# Altium schematic symbol library CapTantal_passive.SchLib: 7 symbols
Pins are listed as number, name and electrical type; pins without a type are passive.

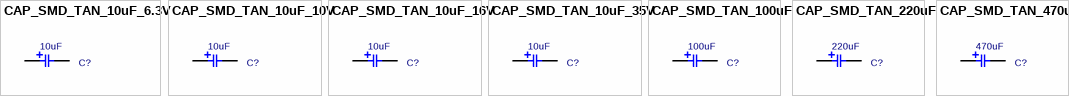
[diagram p0: symbols CAP_SMD_TAN_10uF_6.3V to CAP_SMD_TAN_470uF]

## CAP_SMD_TAN_10uF_6.3V
designator C?, comment 10uF
CAP, SMD, TAN; PARAM: 20%, 300mOhm, -55~105oC; MANF: VISHAY; MANF_P#: T55A106M6R3C0300; PARAM2: 6.3V; PRICE: 0.46$; VALUE: 10uF
footprint C_TN_3216 (CAPACITOR, TAN A, 1206P, 3.2x1.6mm)
pins: 1, 2

## CAP_SMD_TAN_10uF_10V
designator C?, comment 10uF
CAP, SMD, TAN; PARAM: 20%, 300mOhm, -55~105oC; MANF: VISHAY; MANF_P#: T55A106M010C0300; PARAM2: 10V; PRICE: 0.46$; VALUE: 10uF
footprint C_TN_3216 (CAPACITOR, TAN A, 1206P, 3.2x1.6mm)
pins: 1, 2

## CAP_SMD_TAN_10uF_16V
designator C?, comment 10uF
CAP, SMD, TAN; PARAM: 20%, 200mOhm, -55~105oC; MANF: AVX; MANF_P#: TCJT106M016R0200; PARAM2: 16V; PRICE: 1$; VALUE: 10uF
footprint C_TN_3528 (CAPACITOR, TAN B, TAN H, TAN T, TAN M, 3528P, 1210P, 3.5X2.8mm)
pins: 1, 2

## CAP_SMD_TAN_10uF_35V
designator C?, comment 10uF
CAP, SMD, TAN; PARAM: 20%, 300mOhm, -55~125oC; MANF: VISHAY; MANF_P#: 593D106X9035D2TE3; PARAM2: 35V; PRICE: 0.8$; VALUE: 10uF
footprint C_TN_7343 (CAPACITOR, TAN D, TAN E, TAN Y, TAN X, 7343P, 7.3X4.3mm)
pins: 1, 2

## CAP_SMD_TAN_100uF
designator C?, comment 100uF
CAP, SMD, TAN; PARAM: 20%, 50mOhm, -55~105oC; MANF: AVX; MANF_P#: TCJD107M016R0050; PARAM2: 16V; PRICE: 1.9$; VALUE: 100uF
footprint C_TN_7343 (CAPACITOR, TAN D, TAN E, TAN Y, TAN X, 7343P, 7.3X4.3mm)
pins: 1, 2

## CAP_SMD_TAN_220uF
designator C?, comment 220uF
CAP, SMD, TAN; PARAM: 20%, 35mOhm, -55~105oC; MANF: VISHAY; MANF_P#: T55D227M6R3C0035; PARAM2: 6.3V; PRICE: 1.9$; VALUE: 220uF
footprint C_TN_7343 (CAPACITOR, TAN D, TAN E, TAN Y, TAN X, 7343P, 7.3X4.3mm)
pins: 1, 2

## CAP_SMD_TAN_470uF
designator C?, comment 470uF
CAP, SMD, TAN; PARAM: 20%, 50mOhm, -55~105oC; MANF: AVX; MANF_P#: TCN4477M016R0100; PARAM2: 16V; PRICE: 4$; VALUE: 470uF
footprint C_TN_7361 (CAPACITOR, TAN V, 2924, 7361, 7.3X6.1mm)
pins: 1, 2